# EAGLE library part A4988BREAKOUT (library ComboBreaker)
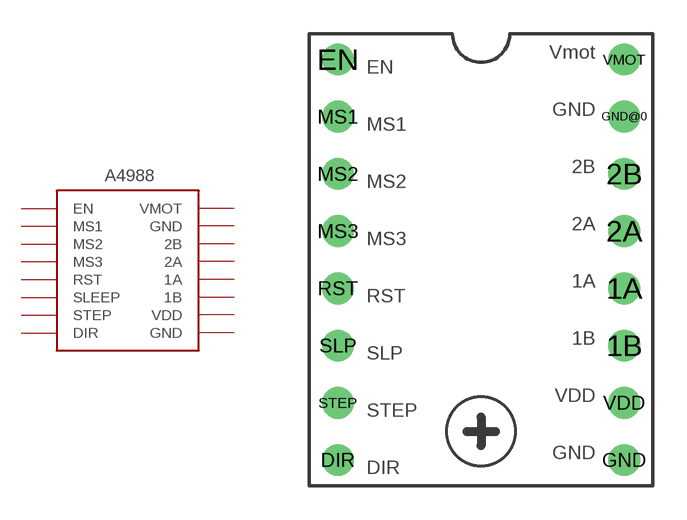
[diagram p1: symbol with the pads of A4988BREAKOUT; footprint A4988BREAKOUT]

Designator prefix -

## A4988BREAKOUT  [A4988BREAKOUT]
1A  1A  out
1B  1B  out
2A  2A  out
2B  2B  out
DIR  DIR  in
EN  EN  in
GND  GND  pwr
GND@0  GND  pwr
MS1  MS1  in
MS2  MS2  in
MS3  MS3  in
RST  RST  in
SLP  SLEEP  in
STEP  STEP  in
VDD  VDD  pwr
VMOT  VMOT  pwr

## Footprint A4988BREAKOUT (pad centres in mm)
drill 0.9: 1A 6.35,0; 1B 6.35,-2.54; 2A 6.35,2.54; 2B 6.35,5.08; DIR -6.35,-7.62; EN -6.35,10.16; GND 6.35,-7.62; GND@0 6.35,7.62; MS1 -6.35,7.62; MS2 -6.35,5.08; MS3 -6.35,2.54; RST -6.35,0; SLP -6.35,-2.54; STEP -6.35,-5.08; VDD 6.35,-5.08; VMOT 6.35,10.16